# Altium schematic symbol library NRP-03K-C-05D-H.SchLib: 1 symbol
Pins are listed as number, name and electrical type; pins without a type are passive.

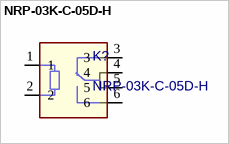
[diagram p0: symbol NRP-03K-C-05D-H]

## NRP-03K-C-05D-H
designator K?
footprint NRP-03K-C-05D-H
pins: 1, 2, 3, 4, 5, 6